# Altium schematic symbol library Connectors.SchLib: 63 symbols
Pins are listed as number, name and electrical type; pins without a type are passive.

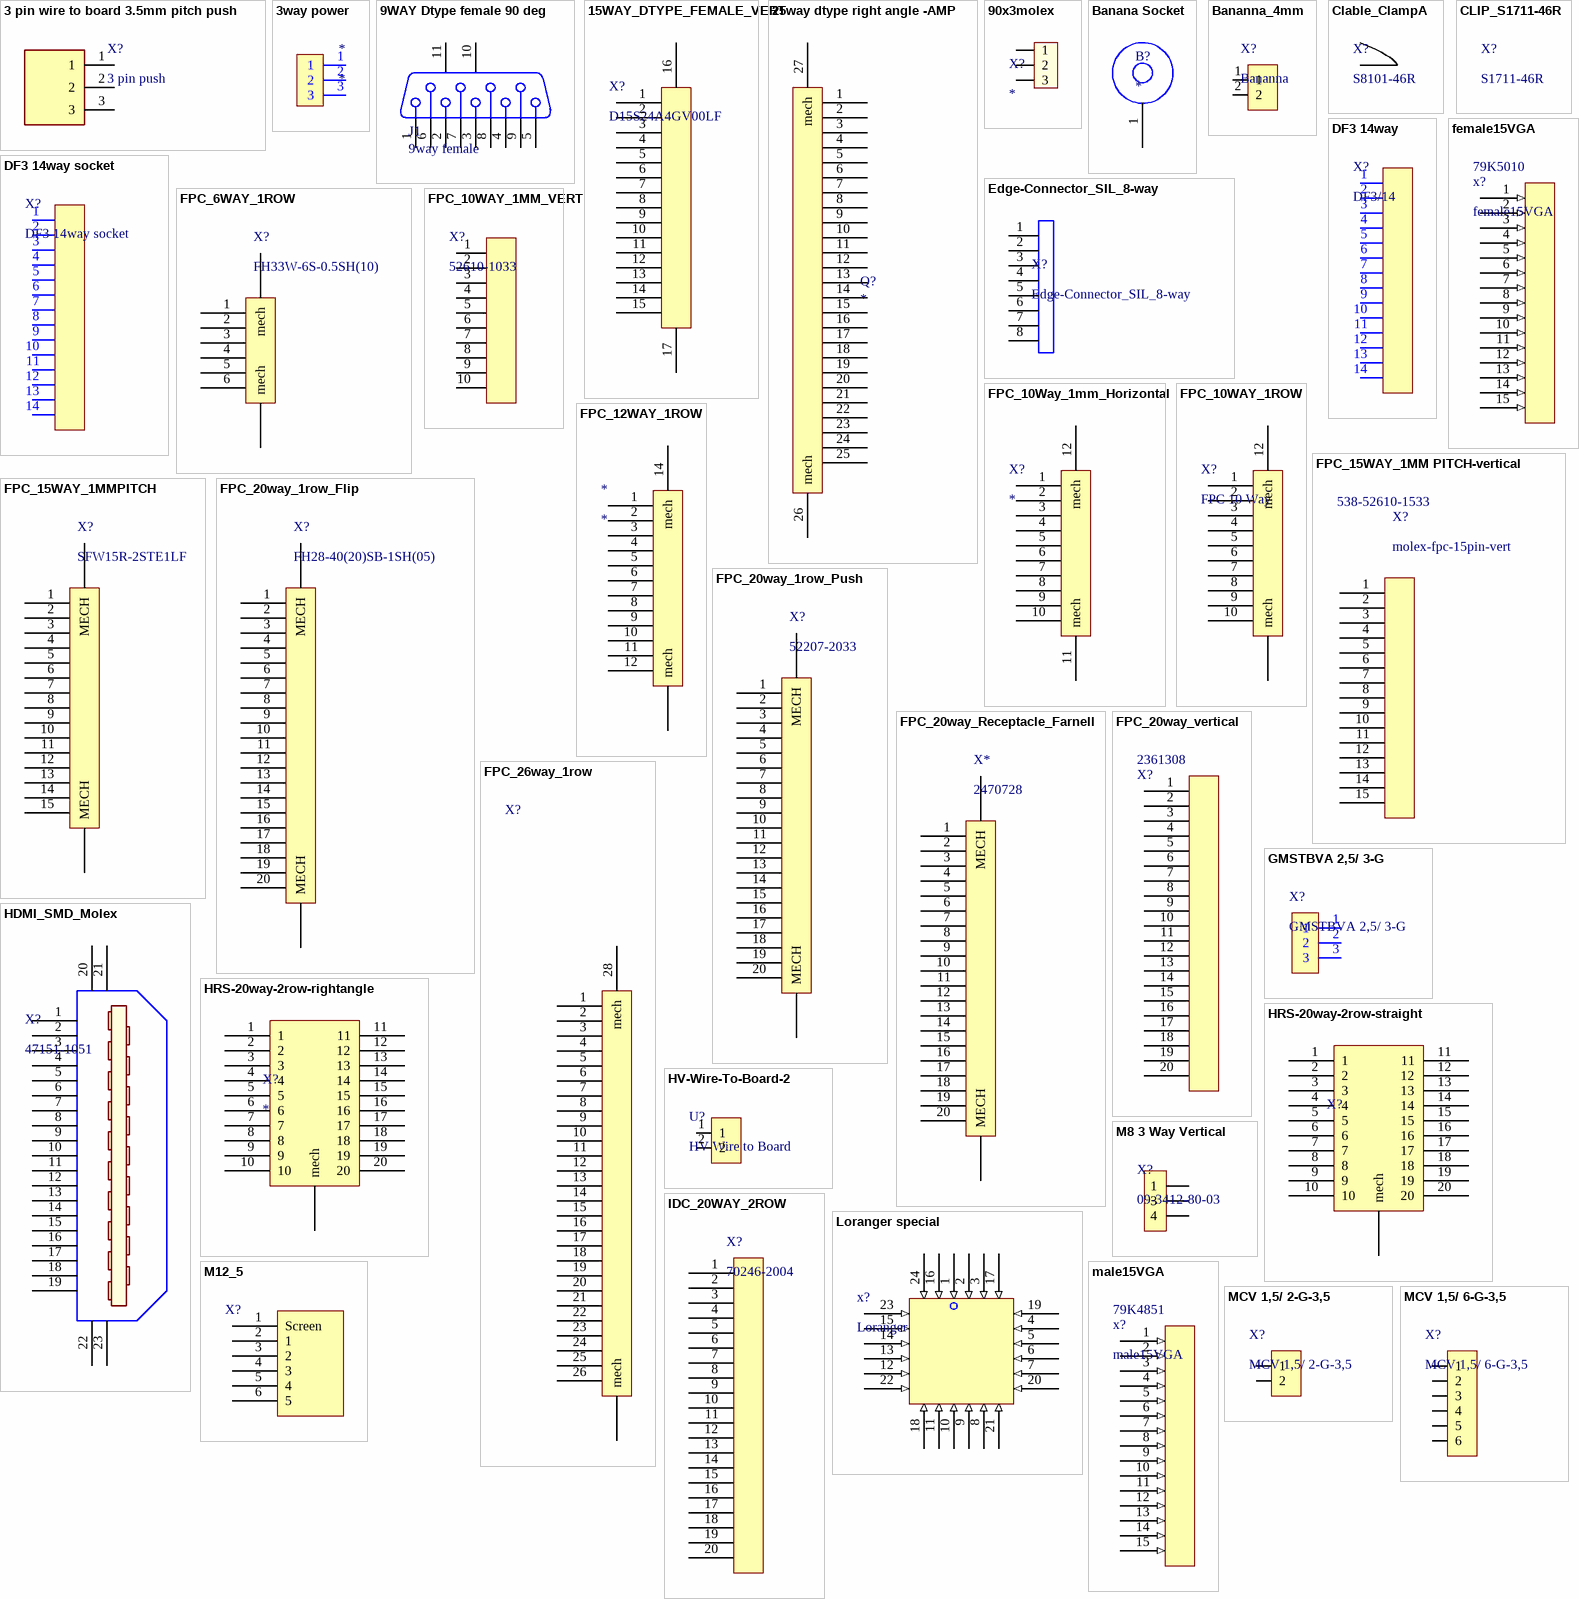
[diagram p0: symbols 3 pin wire to board 3.5mm pitch push to MCV 1,5/ 6-G-3,5]

## 3 pin wire to board 3.5mm pitch push
designator X?, comment 3 pin push
Wire-To-Board Terminal Block, Screwless, 3.5 mm, 3 Ways, 20 AWG, 14 AWG, Push In; Supplier 1: Digi-Key; Supplier 2: Farnell; Supplier 3: Farnell; Supplier 4: RSComponents; Supplier 5: Mouser; Supplier Part Number 1: A123849-ND; Supplier Part Number 2: 2610381; Supplier Part Number 3: 2579047; Supplier Part Number 4: 1232051; Supplier Part Number 5: 571-1-2834011-3
footprint 3 pin_3.5mm_ push wire to board (TE MSC series_1-2834011-3)
pins: 1, 2, 3

## 3way power
designator *
footprint 3way inlet (3 way power inlet)
pins: 1, 2, 3

## 9WAY Dtype female 90 deg
designator J1, comment 9way female
D Sub Connector, Right Angle, DB9, Standard, Receptacle, 9 Contacts, DE, Solder
footprint 9 WAY D-TYPE RIGHT angle
pins: 1, 2, 3, 4, 5, 6, 7, 8, 9, 10 MH1, 11 MH2

## 15WAY_DTYPE_FEMALE_VERT
designator X?, comment D15S24A4GV00LF
Amphenol FCI Delta D Series, 15 Way Through Hole PCB D-sub Connector Socket, 2.74mm Pitch; Supplier 1: Mouser; Supplier 2: Farnell; Supplier 3: RSComponents; Supplier Part Number 1: 649-D15S24A4GV00LF; Supplier Part Number 2: 1103914; Supplier Part Number 3: 542-7955
footprint D15S24A4GV00LF (D Sub Connector, 15 Contacts, Receptacle)
pins: 1, 2, 3, 4, 5, 6, 7, 8, 9, 10, 11, 12, 13, 14, 15, 16, 17

## 25way dtype right angle -AMP
designator Q?
Supplier 1: Farnell; Supplier Part Number 1: 2751219
footprint 25 way female dtype right angle (AMP 25 way female dtype right angle)
pins: 1, 2, 3, 4, 5, 6, 7, 8, 9, 10, 11, 12, 13, 14, 15, 16, 17, 18, 19, 20, 21, 22, 23, 24, 25, 26 mech, 27 mech

## 90x3molex
designator X?
Supplier 1: RSComponents; Supplier 2: Farnell; Supplier Part Number 1: 687-7263P; Supplier Part Number 2: 9731016
footprint 90x3way molex
footprint 90x3way molex
pins: 1, 2, 3

## Banana Socket
designator B?
Supplier 1: Farnell; Supplier 2: Farnell; Supplier 3: RSComponents; Supplier Part Number 1: 871760; Supplier Part Number 2: 1698950; Supplier Part Number 3: 7480737
footprint Banana socket panel mount (banana socket to mount in pcb)
pins: 1

## Bananna_4mm
designator X?, comment Bananna
Supplier 1: Farnell; Supplier 2: Farnell; Supplier Part Number 1: 1698983; Supplier Part Number 2: 1698982
footprint Banana_4mm (PCB mount 4mm bananna connector)
pins: 1, 2

## Clable_ClampA
designator X?, comment S8101-46R
Cable clamp; Supplier 1: Mouser; Supplier 2: Farnell; Supplier Part Number 1: 855-S8101-46R; Supplier Part Number 2: 1859380
footprint Cable_ClampA
pins: 1

## CLIP_S1711-46R
designator X?, comment S1711-46R
EMI Sheild Clip; Supplier 1: RSComponents; Supplier 2: Farnell; Supplier 3: Mouser; Supplier Part Number 1: 7884795P; Supplier Part Number 2: 1703077; Supplier Part Number 3: 855-S1711-46
footprint S1711-46R (EMI Sheild Clip)

## DF3 14way
designator X?, comment DF3/14
right angle 14way connector; Supplier 1: RSComponents; Supplier 2: Mouser; Supplier Part Number 1: 779-4796; Supplier Part Number 2: 798-DF3-14P-2DS01
footprint DF3-14way
pins: 1, 2, 3, 4, 5, 6, 7, 8, 9, 10, 11, 12, 13, 14

## DF3 14way socket
designator X?
Supplier 1: RSComponents; Supplier 2: Mouser; Supplier 3: Digi-Key; Supplier Part Number 1: 779-4803P; Supplier Part Number 2: 798-DF3-14S-2DSA55; Supplier Part Number 3: HR2056-ND
footprint DF3 14way socket
pins: 1, 2, 3, 4, 5, 6, 7, 8, 9, 10, 11, 12, 13, 14

## Edge-Connector_SIL_8-way
designator X?
footprint Edge-Connector_SIL_8-Way_Imperial
pins: 1, 2, 3, 4, 5, 6, 7, 8

## female15VGA
designator x?  Supplier Part Number 1: 79K5010
female 90 pcb mounted VGA; Supplier 1: Newark
footprint FemaleVGA15 (maleVGA15)
pins: 1 (in), 2 (in), 3 (in), 4 (in), 5 (in), 6 (in), 7 (in), 8 (in), 9 (in), 10 (in), 11 (in), 12 (in), 13 (in), 14 (in), 15 (in)

## FPC_6WAY_1ROW
designator X?, comment FH33W-6S-0.5SH(10)
FPC 6 Way PCB Connector; Supplier 1: Farnell; Supplier Part Number 1: 2427790
footprint FPC_6WAY_1ROW_FLIP
pins: 1, 2, 3, 4, 5, 6, 7 mech, 8 mech

## FPC_10Way_1mm_Horizontal
designator X?
FPC, 10-way, 1mm pitch, horizontal, bottom contacts.
footprint FPC_10Way_1mm_Horizontal_Molex_522xxSeries
pins: 1, 2, 3, 4, 5, 6, 7, 8, 9, 10, 11 mech, 12 mech

## FPC_10WAY_1MM_VERT
designator X?, comment 52610-1033
10 way FPC, 1mm Pitch, Vertical; Supplier 1: RSComponents; Supplier 2: Farnell; Supplier 3: Mouser; Supplier Part Number 1: 7883509; Supplier Part Number 2: 2361303; Supplier Part Number 3: 538-52610-1033
footprint FPC_10WAY_VERT_1MM
pins: 1, 2, 3, 4, 5, 6, 7, 8, 9, 10

## FPC_10WAY_1ROW
designator X?, comment FPC 10 Way
Supplier 1: Farnell; Supplier Part Number 1: 2427811
footprint FPC_10Way_1ROW
pins: 1, 2, 3, 4, 5, 6, 7, 8, 9, 10, 11 mech, 12 mech

## FPC_12WAY_1ROW
designator *
pins: 1, 2, 3, 4, 5, 6, 7, 8, 9, 10, 11, 12, 13 mech, 14 mech

## FPC_15WAY_1MM PITCH-vertical
designator X?, comment molex-fpc-15pin-vert  Supplier Part Number 1: 538-52610-1533
15 way FPC connector vert-526101533; Supplier 1: Mouser
footprint FPC_15WAY__Vert_molex (molex 20 pin vertica-526101533)
pins: 1, 2, 3, 4, 5, 6, 7, 8, 9, 10, 11, 12, 13, 14, 15

## FPC_15WAY_1MMPITCH
designator X?, comment SFW15R-2STE1LF
15 way FPC connector, with 1mm pitch; Supplier 1: Mouser; Supplier Part Number 1: 649-SFW15R-2STE1LF
footprint FPC_15WAY_1MMPITCH (SFW15R-2STE1LF)
pins: 1, 2, 3, 4, 5, 6, 7, 8, 9, 10, 11, 12, 13, 14, 15, 16 MECH, 16 MECH

## FPC_20way_1row_Flip
designator X?, comment FH28-40(20)SB-1SH(05)
FPC 20 Way Flip Connector; Supplier 1: Mouser; Supplier Part Number 1: 798-FH284020SB1SH05
footprint FPC_20WAY_1ROW_FLIP (Hirose flip connector)
pins: 1, 2, 3, 4, 5, 6, 7, 8, 9, 10, 11, 12, 13, 14, 15, 16, 17, 18, 19, 20, 21 MECH, 22 MECH

## FPC_20way_1row_Push
designator X?, comment 52207-2033
FPC 20 Way Push Connector; Supplier 1: Mouser; Supplier 2: Farnell; Supplier Part Number 1: 538-52207-2033; Supplier Part Number 2: 2361297
footprint FPC_20WAY_1ROW_PUSH (Hirose flip connector)
pins: 1, 2, 3, 4, 5, 6, 7, 8, 9, 10, 11, 12, 13, 14, 15, 16, 17, 18, 19, 20, 21 MECH, 22 MECH

## FPC_20way_Receptacle_Farnell
designator X*, comment 2470728
20 Way Receptacle; Supplier 1: Farnell; Supplier Part Number 1: 2470728
footprint FPC_20way_Receptacle (ZIF Connectors, Horizontal, Bottom Contact Hinge Type, pitch 1mm, 20p)
pins: 1, 2, 3, 4, 5, 6, 7, 8, 9, 10, 11, 12, 13, 14, 15, 16, 17, 18, 19, 20, 21 MECH, 22 MECH

## FPC_20way_vertical
designator X?, comment Supplier Part Number 1: 2361308  (hidden comment: molex 20pin_vert_52610-2033)
FPC 20 Way vertical Connector; Supplier 1: Farnell
footprint FPC_20WAY_1ROW_Vert_molex (molex 20 pin vertical-52610-2033)
pins: 1, 2, 3, 4, 5, 6, 7, 8, 9, 10, 11, 12, 13, 14, 15, 16, 17, 18, 19, 20

## FPC_26way_1row
designator X?, comment FPC 26 way  (value not drawn)
Hirose FPC 26 way 1 row connection; Supplier 1: Farnell; Supplier Part Number 1: 2427813
footprint FPC_26WAY_1ROW (FPC Connector 26 way)
pins: 1, 2, 3, 4, 5, 6, 7, 8, 9, 10, 11, 12, 13, 14, 15, 16, 17, 18, 19, 20, 21, 22, 23, 24, 25, 26, 27 mech, 28 mech

## GMSTBVA 2,5/ 3-G
designator X?
Terminal Block, Header, 7.5 mm, 3 Ways, 12 A, 250 V; Supplier 1: Farnell; Supplier 2: Mouser; Supplier 3: RSComponents; Supplier Part Number 1: 2776322; Supplier Part Number 2: 651-1766673; Supplier Part Number 3: 802-6101
footprint GMSTBVA 2,5/ 3-G (Terminal Block, Header, 7.5 mm, 3 Ways, 12 A, 250 V)
pins: 1, 2, 3

## HDMI_SMD_Molex
designator X?, comment 47151-1051
HDMI Connector, 19 Contacts, Header, Surface Mount; Supplier 1: Mouser; Supplier 2: Farnell; Supplier Part Number 1: 538-47151-1051; Supplier Part Number 2: 2614936
footprint HDMI_Molex_ 47151-1051 (SMD HDMI connector by molex)
pins: 1 P1, 2 P2, 3 P3, 4 P4, 5 P5, 6 P6, 7 P7, 8 P8, 9 P9, 10 P10, 11 P11, 12 P12, 13 P13, 14 P14, 15 P15, 16 P16, 17 P17, 18 P18, 19 P19, 20 SH1, 21 SH2, 22 SH3, 23 SH4

## HRS-20way-2row-rightangle
designator X?
Supplier 1: Farnell; Supplier Part Number 1: 2450976
footprint HRS-20way-2row-rightangle
pins: 1, 2, 3, 4, 5, 6, 7, 8, 9, 10, 11, 12, 13, 14, 15, 16, 17, 18, 19, 20, mech

## HRS-20way-2row-straight
designator X?, comment FX20-20P-0.5SV20  (value not drawn)
Supplier 1: Farnell; Supplier Part Number 1: 2450975
footprint HRS-20way-2row-straight
pins: 1, 2, 3, 4, 5, 6, 7, 8, 9, 10, 11, 12, 13, 14, 15, 16, 17, 18, 19, 20, mech

## HV-Wire-To-Board-2
designator U?, comment HV Wire to Board
footprint HV-Wire-To-Board
pins: 1, 2

## IDC_20WAY_2ROW
designator X?, comment 70246-2004
IDC 20 way, 2 row; Supplier 1: Farnell; Supplier 2: Farnell; Supplier 3: Farnell; Supplier Part Number 1: 1392410; Supplier Part Number 2: 2215309; Supplier Part Number 3: 2577282
footprint IDC_20WAY_2ROW
pins: 1, 2, 3, 4, 5, 6, 7, 8, 9, 10, 11, 12, 13, 14, 15, 16, 17, 18, 19, 20

## Loranger special
designator x?, comment Loranger
P/N 03450 241 6215
footprint Loranger special (P/n 03450 241 6215)
pins: 1 (in), 2 (in), 3 (in), 4 (in), 5 (in), 6 (in), 7 (in), 8 (in), 9 (in), 10 (in), 11 (in), 12 (in), 13 (in), 14 (in), 15 (in), 16 (in), 17 (in), 18 (in), 19 (in), 20 (in), 21 (in), 22 (in), 23 (in), 24 (in)

## M8 3 Way Vertical
designator X?, comment 09-3412-80-03
3 Pole Panel Mount M8 Connector Socket; Supplier 1: RSComponents; Supplier Part Number 1: 706-3137
footprint 09-3412-80-03 (3 Pole Panel Mount M8 Connector Socket)
pins: 1, 3, 4

## M12_5
designator X?, comment M12, 5 Way with Screen  (value not drawn)
Supplier 1: Farnell; Supplier Part Number 1: 2481397
footprint TE_M12_5WAY_RIGH (M12 5 way connector, PCB mount, right angle into panel)
pins: 1 Screen, 2 1, 3 2, 4 3, 5 4, 6 5

## male15VGA
designator x?  Supplier Part Number 1: 79K4851
male 90 pcb mounted VGA; Supplier 1: Newark
footprint male15VGA (vga connector)
pins: 1 (in), 2 (in), 3 (in), 4 (in), 5 (in), 6 (in), 7 (in), 8 (in), 9 (in), 10 (in), 11 (in), 12 (in), 13 (in), 14 (in), 15 (in)

## MCV 1,5/ 2-G-3,5
designator X?
Terminal Block, Header, 3.5 mm, 2 Ways, 8 A, 160 V, Through Hole Vertical; Supplier 1: RSComponents; Supplier 2: Mouser; Supplier 3: Farnell; Supplier Part Number 1: 804-2194; Supplier Part Number 2: 651-1843606; Supplier Part Number 3: 3704816
footprint MCV 1,5/ 2-G-3,5 (2 way, vertical, 160V  PHOENIX CONTACT)
pins: 1, 2

## MCV 1,5/ 6-G-3,5
designator X?
Terminal Block, Header, 3.5 mm, 6 Ways, 8 A, 160 V, Through Hole Vertical. Mates with FMC 1,5/ 6-ST-3,5; Supplier 1: Farnell; Supplier 2: RSComponents; Supplier 3: Mouser; Supplier Part Number 1: 3704853; Supplier Part Number 2: 804-2210; Supplier Part Number 3: 651-1843648
footprint MCV 1,5/ 6-G-3,5 (6 way, vertical, 160V  PHOENIX CONTACT)
pins: 1, 2, 3, 4, 5, 6

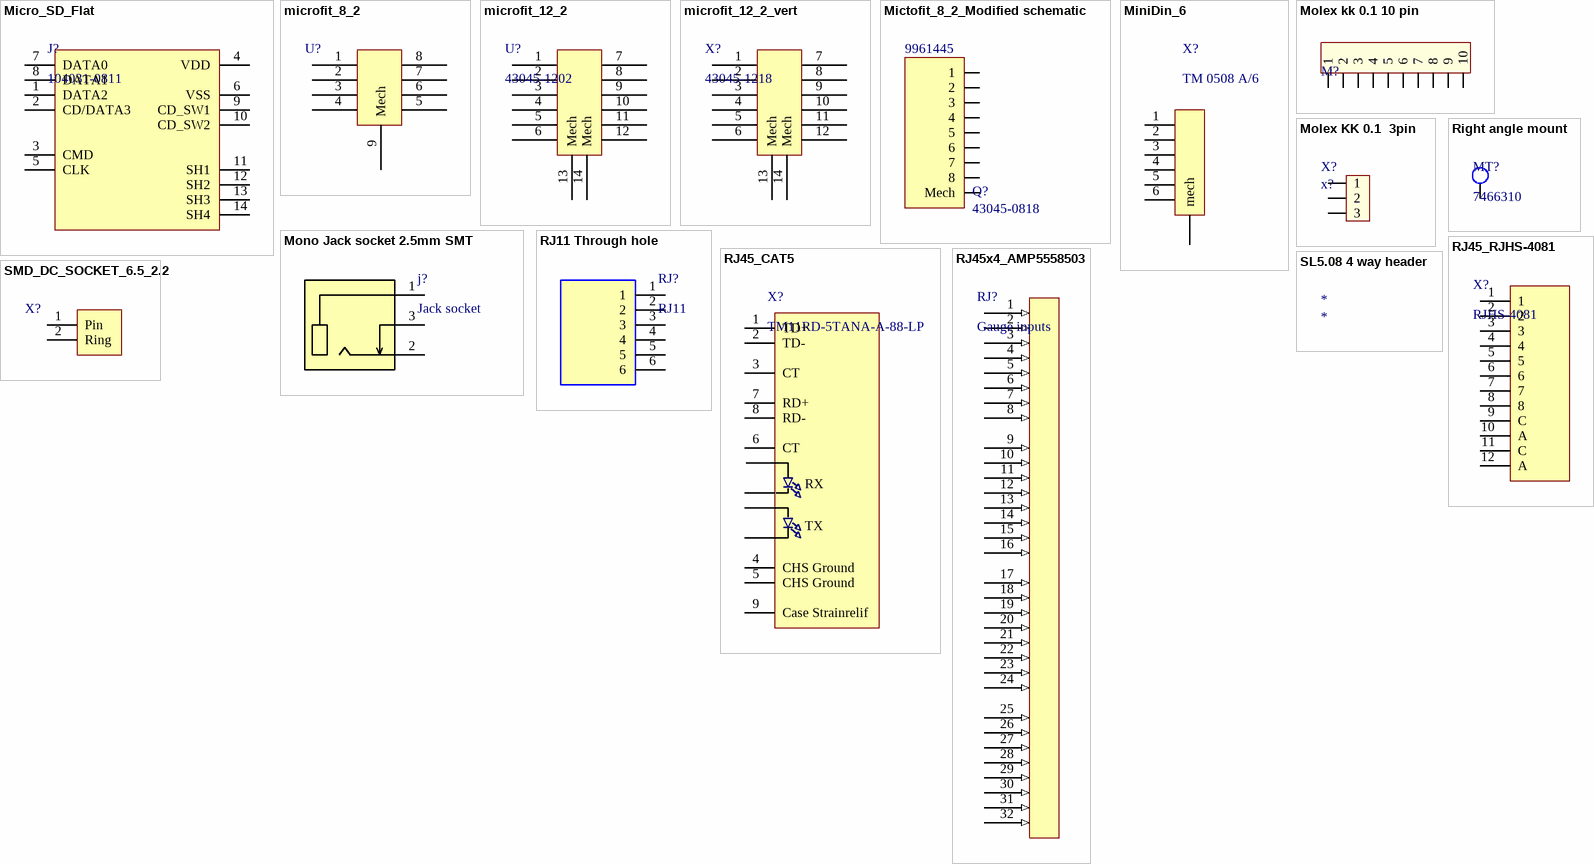
[diagram p1: symbols Micro_SD_Flat to SMD_DC_SOCKET_6.5_2.2]

## Micro_SD_Flat
designator J?, comment 104031-0811
Supplier 1: Farnell; Supplier Part Number 1: 2678573
footprint MICRO_SD_FLAT (Molex  104031-0811)
pins: 1 DATA2, 2 CD/DATA3, 3 CMD, 4 VDD, 5 CLK, 6 VSS, 7 DATA0, 8 DATA1, 9 CD_SW1, 10 CD_SW2, 11 SH1, 12 SH2, 13 SH3, 14 SH4

## microfit_8_2
designator U?
Molex microfit 3, 8 positions, 2 rows; farnell: 1513877
footprint MicroFit_8_double (Molex micro fit 3 range, 8 positions, two rows.)
pins: 1, 2, 3, 4, 5, 6, 7, 8, 9 Mech

## microfit_12_2
designator U?, comment 43045-1202
MicroFit 3, 12 connections, 2 rows; Supplier 1: Mouser; Supplier Part Number 1: 538-43045-1202
footprint MicroFit_12_double_right
pins: 1, 2, 3, 4, 5, 6, 7, 8, 9, 10, 11, 12, 13 Mech, 14 Mech

## microfit_12_2_vert
designator X?, comment 43045-1218
MicroFit, 12x2, Vertical; Supplier 1: Mouser; Supplier 2: Farnell; Supplier 3: RSComponents; Supplier Part Number 1: 538-430-45-1218; Supplier Part Number 2: 2313694; Supplier Part Number 3: 670-2018P
footprint MICROFIT_12_2_VERT (Microfit 12 way, two rows, vertical, SMD)
pins: 1, 2, 3, 4, 5, 6, 7, 8, 9, 10, 11, 12, 13 Mech, 14 Mech

## Mictofit_8_2_Modified schematic
designator Q?, comment 43045-0818  Supplier Part Number 1: 9961445
microfit 8 way verticle; Supplier 1: Farnell
footprint MicroFit_8_double (Molex micro fit 3 range, 8 positions, two rows.)
pins: 1, 2, 3, 4, 5, 6, 7, 8, 9 Mech

## MiniDin_6
designator X?, comment TM 0508 A/6
Mini Din 6 Way PCB Connector (Female/ Socket); Supplier 1: Farnell; Supplier Part Number 1: 1200113
footprint MiniDin-6way
pins: 1, 2, 3, 4, 5, 6, 7 mech

## Molex kk 0.1 10 pin
designator M?  (value not drawn)
Supplier 1: Farnell; Supplier Part Number 1: 9731580
footprint Molex  KK 0.1 10PIN (Molex kk 10 pin header)
pins: 1, 2, 3, 4, 5, 6, 7, 8, 9, 10

## Molex KK 0.1  3pin
designator X?, comment x?
Supplier 1: Farnell; Supplier Part Number 1: 1462838
footprint Molex KK 0.1 3pin (Molex through hole 0.1 pitch 3 pin)
pins: 1, 2, 3

## Mono Jack socket 2.5mm SMT
designator j?, comment Jack socket
cuiinc mono2.5mm smt jack socket; Supplier 1: Mouser; Supplier Part Number 1: 490-MJ-2523-SMT-TR
footprint Mon0 Jack socket2.5mm (cui inc mono jack 2.5mm socket mj-2523-smt-tr)
pins: 1, 2, 3

## Right angle mount
designator MT?, comment 7466310
Right angle mount; Supplier 1: Mouser; Supplier Part Number 1: 710-7466310; Supplier 2: RS Components; Supplier Part Number 2: 1418500
footprint Righ angle threaded mount (50A thread connector 7466310)
pins: 1

## RJ11 Through hole
designator RJ?, comment RJ11
RJ11 6 Position RJE01-660-01; Supplier 1: Farnell; Supplier 2: Mouser; Supplier Part Number 1: 2751501; Supplier Part Number 2: 523-RJE01-660-01
footprint RJ11_RJE01-660-01 (RJ11 90 DEGREE SOCKET SMT)
pins: 1, 2, 3, 4, 5, 6

## RJ45_CAT5
designator X?, comment TM11RD-5TANA-A-88-LP
RJ45 connector rated at CAT5; Supplier 1: Mouser; Supplier 2: Farnell; Supplier Part Number 1: 798-TM11RD5TANAA88LP; Supplier Part Number 2: 2300428
footprint TM11RD-5TANA-A-88-LP (RJ45 connector)
pins: 1 TD+, 2 TD-, 3 CT, 4 CHS Ground, 5 CHS Ground, 6 CT, 7 RD+, 8 RD-, 9 Case Strainrelif, RX_A, RX_C, TX_A, TX_C
text: RX; TX

## RJ45_RJHS-4081
designator X?, comment RJHS-4081
Amphenol Female RJ45 Connector Right Angle Through Hole; Supplier 1: RSComponents; Supplier Part Number 1: 257-8779
footprint RJHS-4081 (Amphenol Female RJ45 Connector Right Angle Through Hole)
pins: 1, 2, 3, 4, 5, 6, 7, 8, 9 C, 10 A, 11 C, 12 A

## RJ45x4_AMP5558503
designator RJ?, comment Gauge inputs
Supplier 1: Farnell; Supplier Part Number 1: 2452599
footprint RJ45x4 block_AMP (RJ45 x 4 AMP 5558503-1)
pins: 1 (in), 2 (in), 3 (in), 4 (in), 5 (in), 6 (in), 7 (in), 8 (in), 9 (in), 10 (in), 11 (in), 12 (in), 13 (in), 14 (in), 15 (in), 16 (in), 17 (in), 18 (in), 19 (in), 20 (in), 21 (in), 22 (in), 23 (in), 24 (in), 25 (in), 26 (in), 27 (in), 28 (in), 29 (in), 30 (in), 31 (in), 32 (in)

## SL5.08 4 way header
designator *

## SMD_DC_SOCKET_6.5_2.2
designator X?, comment 1613 14  (value not drawn)
Lumberg DC socket 1613 14; Supplier 1: Farnell; Supplier Part Number 1: 1243245
footprint SMD_DC_SOCKET_6.5_2.2 (Lumberg DC socket 1613 14)
pins: 1 Pin, 2 Ring

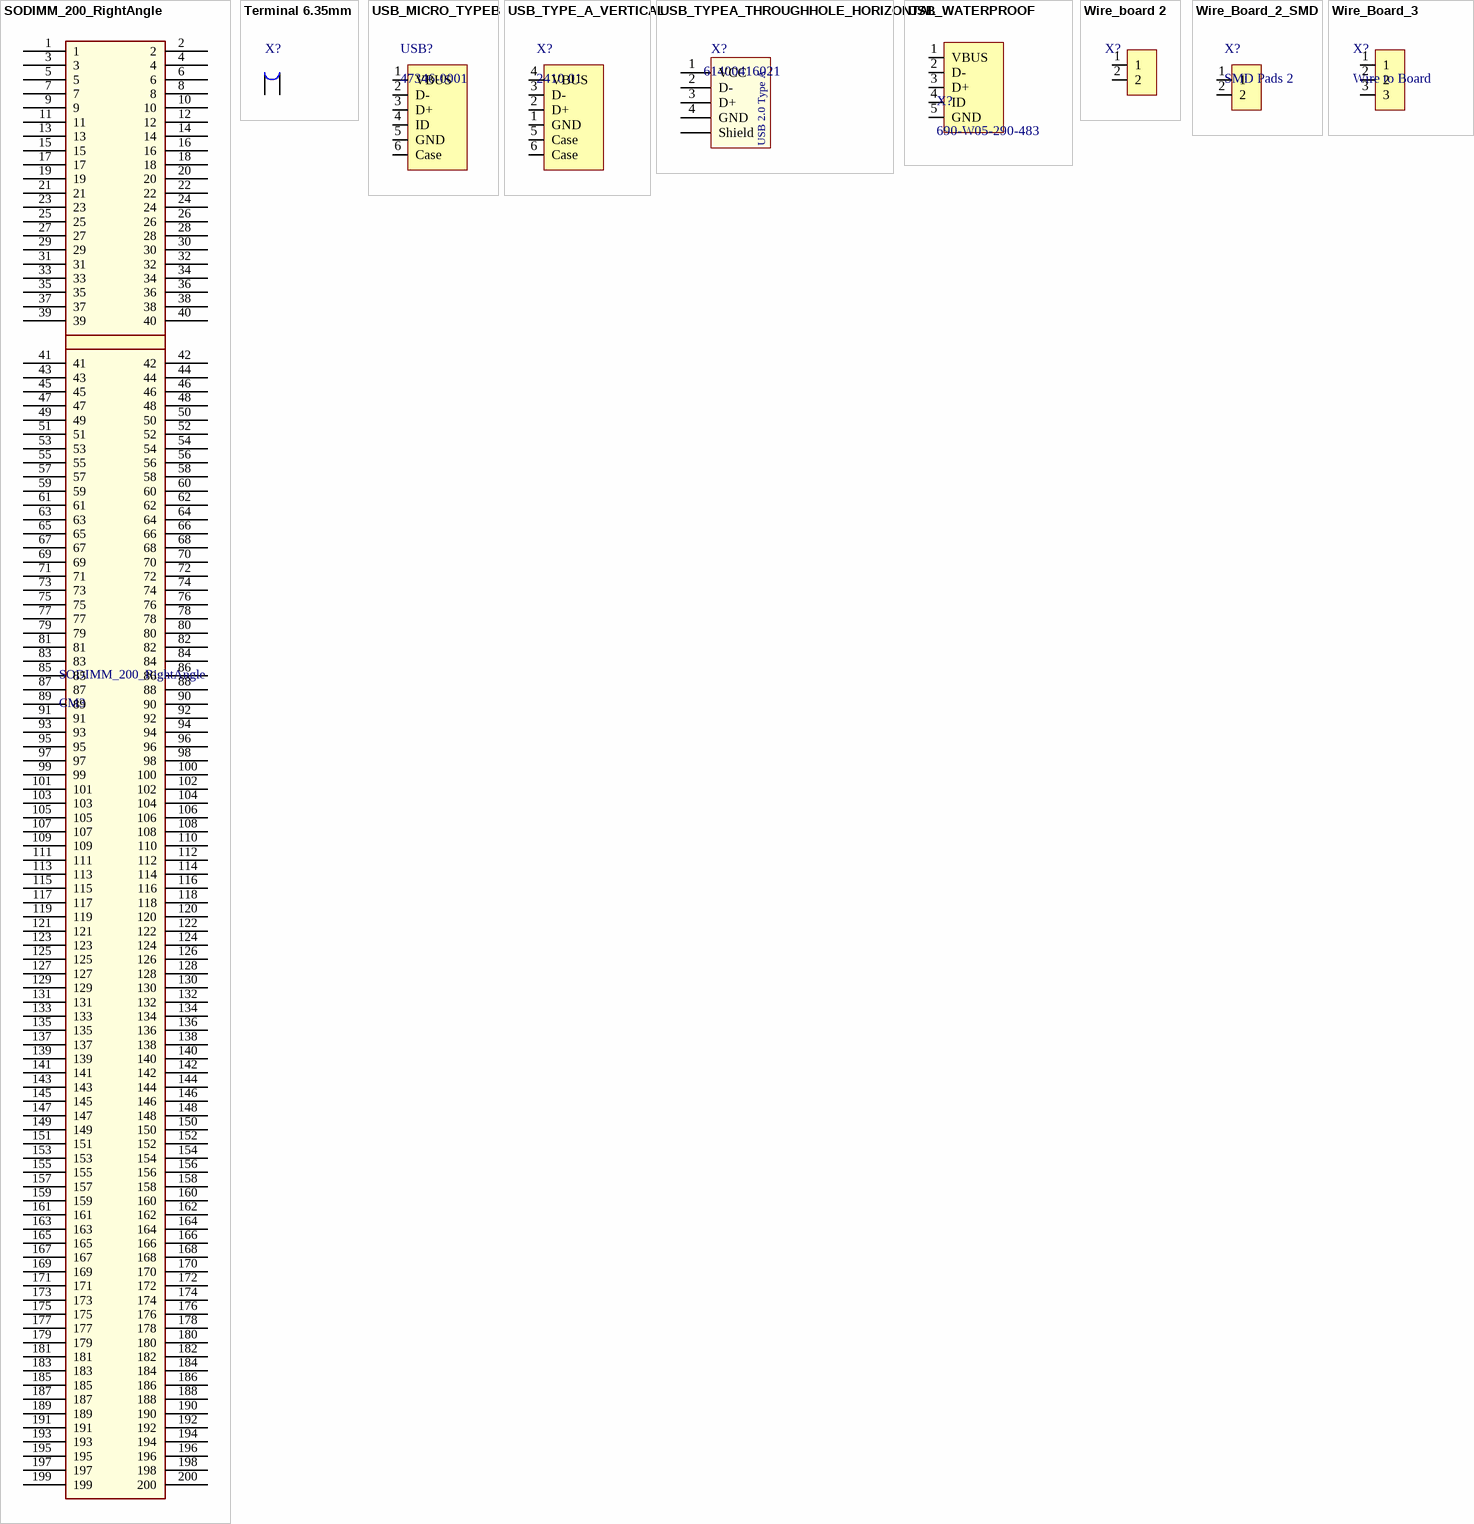
[diagram p2: symbols SODIMM_200_RightAngle to Wire_Board_3]

## SODIMM_200_RightAngle
designator SODIMM_200_RightAngle, comment CM3
footprint SODIMM_200_RighAngle
pins: 1, 2, 3, 4, 5, 6, 7, 8, 9, 10, 11, 12, 13, 14, 15, 16, 17, 18, 19, 20, 21, 22, 23, 24, 25, 26, 27, 28, 29, 30, 31, 32, 33, 34, 35, 36, 37, 38, 39, 40, 41, 42, 43, 44, 45, 46, 47, 48, 49, 50, 51, 52, 53, 54, 55, 56, 57, 58, 59, 60, 61, 62, 63, 64, 65, 66, 67, 68, 69, 70, 71, 72, 73, 74, 75, 76, 77, 78, 79, 80, 81, 82, 83, 84, 85, 86, 87, 88, 89, 90, 91, 92, 93, 94, 95, 96, 97, 98, 99, 100, 101, 102, 103, 104, 105, 106, 107, 108, 109, 110, 111, 112, 113, 114, 115, 116, 117, 118, 119, 120, 121, 122, 123, 124, 125, 126, 127, 128, 129, 130, 131, 132, 133, 134, 135, 136, 137, 138, 139, 140, 141, 142, 143, 144, 145, 146, 147, 148, 149, 150, 151, 152, 153, 154, 155, 156, 157, 158, 159, 160, 161, 162, 163, 164, 165, 166, 167, 168, 169, 170, 171, 172, 173, 174, 175, 176, 177, 178, 179, 180, 181, 182, 183, 184, 185, 186, 187, 188, 189, 190, 191, 192, 193, 194, 195, 196, 197, 198, 199, 200

## Terminal 6.35mm
designator X?, comment 726386-2  (value not drawn)
Supplier 1: Mouser; Supplier 2: RSComponents; Supplier 3: Farnell; Supplier Part Number 1: 571-726386-2; Supplier Part Number 2: 680-5911P; Supplier Part Number 3: 4215618
footprint Terminal 6.35
pins: 1, 2

## USB_MICRO_TYPEB
designator USB?, comment 47346-0001
USB Micro, Type B; Supplier 1: Farnell; Supplier Part Number 1: 1568026
footprint USB_MICRO_TYPEB
pins: 1 VBUS, 2 D-, 3 D+, 4 ID, 5 GND, 6 Case

## USB_TYPE_A_VERTICAL
designator X?, comment 2410 01
Lumberg Through Hole, Version 2.0 Type A USB Connector, Receptacle; Supplier 1: Farnell; Supplier 2: RSComponents; Supplier Part Number 1: 1177882; Supplier Part Number 2: 737-8782
footprint 2410 01 (Vertical USB type A)
pins: 1 GND, 2 D+, 3 D-, 4 VBUS, 5 Case, 6 Case

## USB_TYPEA_THROUGHHOLE_HORIZONTAL
designator X?, comment 61400416021
USB 2.0 Type A Horizontal WR-COM; Interface Type: Type A; Sub-Family: USB 2.0; Gender: Receptacle; ComponentLink1Description: Manufacturer; ComponentLink1URL: http://www.we-online.de; ComponentLink2Description: Datasheet; ComponentLink2URL: http://katalog.we-online.de/em/datasheet/61400416021.pdf; Part Number: 61400416021; Published Date: April 2017; Publisher: Wurth Elektronik; Type: Horizontal; Construction: THT
footprint USB_TYPEA_THROUGH_HOLE (WURTH ELEKTRONIK 61400416021)
pins: 1 VCC, 2 D-, 3 D+, 4 GND, Shell Shield
text: USB 2.0 Type A

## USB_WATERPROOF
designator X?, comment 690-W05-290-483
Waterproof usb, panel mount; Supplier 1: Newark; Supplier 2: Farnell; Supplier Part Number 1: 93X6021; Supplier Part Number 2: 2467314; Supplier Part Number 3: 587-690-W05-290-483; Supplier 3: Mouser
footprint waterproof_usb_AB (Waterproof USB AB connector)
pins: 1 VBUS, 2 D-, 3 D+, 4 ID, 5 GND

## Wire_board 2
designator X?
Wire-To-Board Terminal Block, 2.54 mm; Supplier 1: Farnell; Supplier Part Number 1: 3714240
footprint wire to board (Wire-To-Board Terminal Block)
pins: 1, 2

## Wire_Board_2_SMD
designator X?, comment SMD Pads 2
footprint TWO_PAD_SMD (Two SMD connectors)
pins: 1, 2

## Wire_Board_3
designator X?, comment Wire to Board
Wire to board with strainreilf
footprint WIRE-TO-BOARD-3
footprint THREE_PAD_SMD
footprint WIRE-TO-BOARD-3-No-Hole
pins: 1, 2, 3